# EAGLE library part MAX25300BATA/V+ (library ICs)
Linear Voltage Regulator IC Positive Adjustable 1 Output 0.6 to 5.3V Vout 500mA 8-TDFN-EP (2x2)
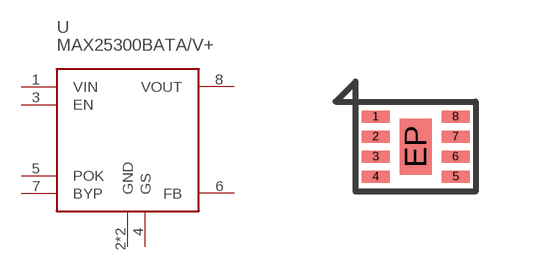
[diagram p274: symbol with the pads of DFN8; footprint DFN8]

Designator prefix U

## MAX25300BATA/V+ (DIGIKEY: 175-MAX38902BATA+TCT-ND; HEIGHT: 1; PRICE_PER: 0.6; VALUE: MAX25300B)  [DFN8]
1  VIN
2  GND
3  EN
4  GS
5  POK
6  FB
7  BYP
8  VOUT
EP  GND

## Footprint DFN8 (pad centres in mm)
smd 0.7 x 0.3: 1 -1,0.75; 2 -1,0.25; 3 -1,-0.25; 4 -1,-0.75; 5 1,-0.75; 6 1,-0.25; 7 1,0.25; 8 1,0.75
smd 0.8 x 1.4: EP 0,0